# EAGLE library part HV5523 (library nixiemisc)
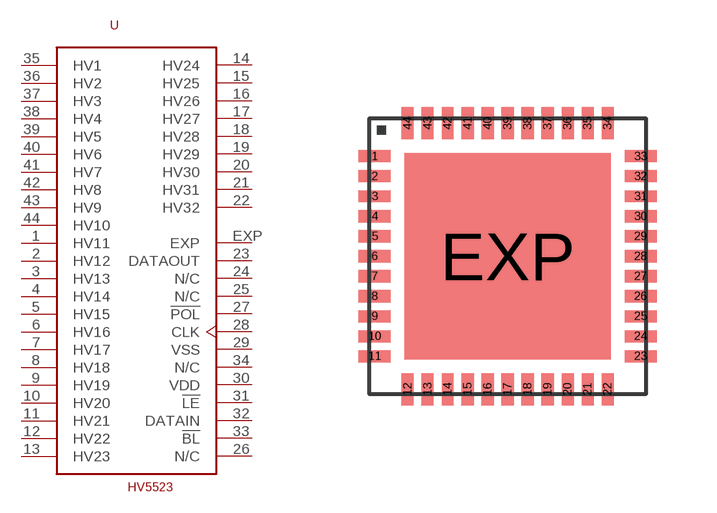
[diagram p11: symbol with the pads of QFN-44-7X7; footprint QFN-44-7X7]

Designator prefix U

## HV5523  [QFN-44-7X7]
1  HV11  pas
2  HV12  pas
3  HV13  pas
4  HV14  pas
5  HV15  pas
6  HV16  pas
7  HV17  pas
8  HV18  pas
9  HV19  pas
10  HV20  pas
11  HV21  pas
12  HV22  pas
13  HV23  pas
14  HV24  pas
15  HV25  pas
16  HV26  pas
17  HV27  pas
18  HV28  pas
19  HV29  pas
20  HV30  pas
21  HV31  pas
22  HV32  pas
23  DATAOUT
24  N/C  nc
25  N/C  nc
26  N/C  nc
27  !POL  pas
28  CLK  pas
29  VSS  pwr
30  VDD  pwr
31  !LE  pas
32  DATAIN
33  !BL  pas
34  N/C  nc
35  HV1  pas
36  HV2  pas
37  HV3  pas
38  HV4  pas
39  HV5  pas
40  HV6  pas
41  HV7  pas
42  HV8  pas
43  HV9  pas
44  HV10  pas
EXP  EXP  pwr

## Footprint QFN-44-7X7 (pad centres in mm)
QFN-44 (7x7x1.8mm) Source: http://www.st.com/stonline/products/literature/ds/11020.pdf
smd 0.8 x 0.3: 1 -3.325,2.5; 2 -3.325,2; 3 -3.325,1.5; 4 -3.325,1; 5 -3.325,0.5; 6 -3.325,0; 7 -3.325,-0.5; 8 -3.325,-1; 9 -3.325,-1.5; 10 -3.325,-2; 11 -3.325,-2.5; 23 3.325,-2.5; 24 3.325,-2; 25 3.325,-1.5; 26 3.325,-1; 27 3.325,-0.5; 28 3.325,0; 29 3.325,0.5; 30 3.325,1; 31 3.325,1.5; 32 3.325,2; 33 3.325,2.5
smd 0.3 x 0.8: 12 -2.5,-3.325; 13 -2,-3.325; 14 -1.5,-3.325; 15 -1,-3.325; 16 -0.5,-3.325; 17 0,-3.325; 18 0.5,-3.325; 19 1,-3.325; 20 1.5,-3.325; 21 2,-3.325; 22 2.5,-3.325; 34 2.5,3.325; 35 2,3.325; 36 1.5,3.325; 37 1,3.325; 38 0.5,3.325; 39 0,3.325; 40 -0.5,3.325; 41 -1,3.325; 42 -1.5,3.325; 43 -2,3.325; 44 -2.5,3.325
smd 5.15 x 5.15: EXP 0,0